# Altium schematic symbol library lib-IC_RF_sch.SchLib: 6 symbols
Pins are listed as number, name and electrical type; pins without a type are passive.

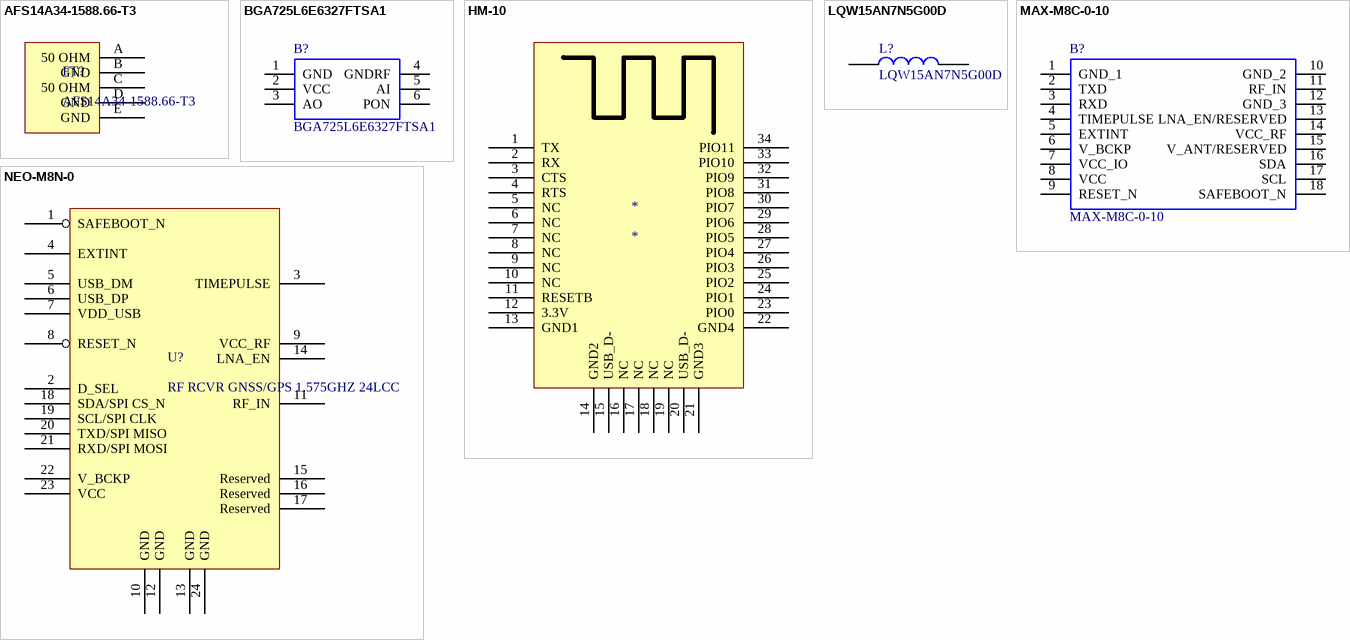
[diagram p0: symbols AFS14A34-1588.66-T3 to NEO-M8N-0]

## AFS14A34-1588.66-T3
designator FT?
Abracon GPS SAW Filter; Manufacturer 1: Abracon LLC; Manufacturer Part Number 1: AFS14A34-1588.66-T3; COMPONENT LINK 1: https://abracon.com/Filters/SAW%20FILTERS/AFS14A34-1588.66-T3.pdf; DIGIKEY PN: 535-13421-1-ND
footprint AFS14A34-1588.66-T3 (ABRACON SAW FILTER)
pins: A 50 OHM, B GND, C 50 OHM, D GND, E GND

## BGA725L6E6327FTSA1
designator B?
INFINEON RF AMP, 20DB, 1.615GHZ, 3.6V, TSLP-6; Manufacture 1: Infineon; Manufacturer Part Number 1: BGA725L6E6327FTSA1; RS Part Number: *; RS Price/Stock: *; Mouser Part Number: 726-BGA725L6E6327FTS; Mouser Price/Stock: https://www.mouser.com/Search/Refine.aspx?Keyword=726-BGA725L6E6327FTS; Datasheet Link: https://www.infineon.com/dgdl/Infineon-BGA725L6-DS-v02_00-en.pdf?fileId=db3a30433784a0400137ef9a4d341f23
footprint BGS12SN6E6327XTSA1
pins: 1 GND, 2 VCC, 3 AO, 4 GNDRF, 5 AI, 6 PON

## HM-10
designator *
footprint HM-10
pins: 1 TX, 2 RX, 3 CTS, 4 RTS, 5 NC, 6 NC, 7 NC, 8 NC, 9 NC, 10 NC, 11 RESETB, 12 3.3V, 13 GND1, 14 GND2, 15 USB_D-, 16 NC, 17 NC, 18 NC, 19 NC, 20 USB_D-, 21 GND3, 22 GND4, 23 PIO0, 24 PIO1, 25 PIO2, 26 PIO3, 27 PIO4, 28 PIO5, 29 PIO6, 30 PIO7, 31 PIO8, 32 PIO9, 33 PIO10, 34 PIO11

## LQW15AN7N5G00D
designator L?
Inductor SMD 0402 7.5nH 570mA Murata LQW15A Series Wire-wound SMD Inductor with a Ferrite Core, 0.0075 uH +/-2% 570mA Idc Q:25; Manufacturer 1: Murata Electronics; Geometry.Height: 0.55mm; Manufacturer Part Number 1: LQW15AN7N5G00D; RS Part Number: 7926473P; RS Price/Stock: http://uk.rs-online.com/web/p/products/7926473P; Mouser Part Number: 81-LQW15AN7N5G00D; Mouser Price/Stock: https://www.mouser.com/Search/Refine.aspx?Keyword=81-LQW15AN7N5G00D; Datasheet Link: http://uk.rs-online.com/web/p/products/7926473
footprint INDC1005X55N
pins: 1, 2

## MAX-M8C-0-10
designator B?
u-blox M8 concurrent GNSS module; Manufacturer_Name: U-Blox; Manufacturer_Part_Number: MAX-M8C-0-10; RS Part Number: *; RS Price/Stock: *; Mouser Part Number: *; Mouser Price/Stock: *; Datasheet Link: https://www.u-blox.com/sites/default/files/MAX-M8-FW3_DataSheet_%28UBX-15031506%29.pdf
footprint MAX-M8
pins: 1 GND_1, 2 TXD, 3 RXD, 4 TIMEPULSE, 5 EXTINT, 6 V_BCKP, 7 VCC_IO, 8 VCC, 9 RESET_N, 10 GND_2, 11 RF_IN, 12 GND_3, 13 LNA_EN/RESERVED, 14 VCC_RF, 15 V_ANT/RESERVED, 16 SDA, 17 SCL, 18 SAFEBOOT_N

## NEO-M8N-0
designator U?, comment RF RCVR GNSS/GPS 1.575GHZ 24LCC
Concurrent GNSS LCC module, TCXO, Flash, SAW, LNA; Manufacturer 1: U-Blox America Inc.; Manufacturer Part Number 1: NEO-M8N-0; Supplier 1: Digi-Key; Supplier Part Number 1: 672-1008-1-ND
footprint NEO-M8N-0
pins: 1 SAFEBOOT_N, 2 D_SEL, 3 TIMEPULSE, 4 EXTINT, 5 USB_DM, 6 USB_DP, 7 VDD_USB, 8 RESET_N, 9 VCC_RF, 10 GND, 11 RF_IN, 12 GND, 13 GND, 14 LNA_EN, 15 Reserved, 16 Reserved, 17 Reserved, 18 SDA/SPI CS_N, 19 SCL/SPI CLK, 20 TXD/SPI MISO, 21 RXD/SPI MOSI, 22 V_BCKP, 23 VCC, 24 GND